# Altium footprint library PcbLib1.PcbLib: 2 footprints
Each footprint in its own frame and in the unit in brackets; x right, y up, seen from the top. Pads: shape width x height; smd on the part's side, far side on the other; paste and mask are expansions set on the pad; w line width, h text height; cw(c..) or ccw(c..) is an arc to the next point about the centre after c.
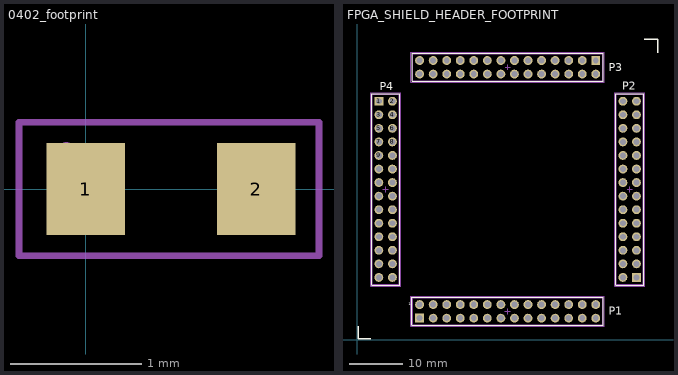
[diagram p0: the footprints below, top view; thin cyan lines are the x and y axes]

## 0402_footprint [mm]
pads (2):
  rect 0.6x0.7 smd: 1(0,0) 2(1.3,0)
Mechanical 13:
  lines w0.1: -0.148,-0.243 -0.148,0.307
Mechanical 15:
  lines w0.05: -0.508,-0.508 -0.508,0.508 1.778,0.508 1.778,-0.508 -0.508,-0.508

## FPGA_SHIELD_HEADER_FOOTPRINT [mm]
pads (112):
  rect 1.65x1.65 hole 1.1: 1(4.04,44.685) 56(44.689,52.321) 84(52.318,11.665) 85(11.666,4.04)
  round 1.65 hole 1.1: 2(6.58,44.685) 3(4.04,42.145) 4(6.58,42.145) 5(4.04,39.605) 6(6.58,39.605) 7(4.04,37.065) 8(6.58,37.065) 9(4.04,34.525) 10(6.58,34.525) 11(4.04,31.985) 12(6.58,31.985) 13(4.04,29.445) 14(6.58,29.445) 15(4.04,26.905) 16(6.58,26.905) 17(4.04,24.365) 18(6.58,24.365) 19(4.04,21.825) 20(6.58,21.825) 21(4.04,19.285) 22(6.58,19.285) 23(4.04,16.745) 24(6.58,16.745) 25(4.04,14.205) 26(6.58,14.205) 27(4.04,11.665) 28(6.58,11.665) 29(11.669,49.781) 30(11.669,52.321) 31(14.209,49.781) 32(14.209,52.321) 33(16.749,49.781) 34(16.749,52.321) 35(19.289,49.781) 36(19.289,52.321) 37(21.829,49.781) 38(21.829,52.321) 39(24.369,49.781) 40(24.369,52.321) 41(26.909,49.781) 42(26.909,52.321) 43(29.449,49.781) 44(29.449,52.321) 45(31.989,49.781) 46(31.989,52.321) 47(34.529,49.781) 48(34.529,52.321) 49(37.069,49.781) 50(37.069,52.321) 51(39.609,49.781) 52(39.609,52.321) 53(42.149,49.781) 54(42.149,52.321) 55(44.689,49.781) 57(49.778,44.685) 58(52.318,44.685) 59(49.778,42.145) 60(52.318,42.145) 61(49.778,39.605) 62(52.318,39.605) 63(49.778,37.065) 64(52.318,37.065) 65(49.778,34.525) 66(52.318,34.525) 67(49.778,31.985) 68(52.318,31.985) 69(49.778,29.445) 70(52.318,29.445) 71(49.778,26.905) 72(52.318,26.905) 73(49.778,24.365) 74(52.318,24.365) 75(49.778,21.825) 76(52.318,21.825) 77(49.778,19.285) 78(52.318,19.285) 79(49.778,16.745) 80(52.318,16.745) 81(49.778,14.205) 82(52.318,14.205) 83(49.778,11.665) 86(11.666,6.58) 87(14.206,4.04) 88(14.206,6.58) 89(16.746,4.04) 90(16.746,6.58) 91(19.286,4.04) 92(19.286,6.58) 93(21.826,4.04) 94(21.826,6.58) 95(24.366,4.04) 96(24.366,6.58) 97(26.906,4.04) 98(26.906,6.58) 99(29.446,4.04) 100(29.446,6.58) 101(31.986,4.04) 102(31.986,6.58) 103(34.526,4.04) 104(34.526,6.58) 105(37.066,4.04) 106(37.066,6.58) 107(39.606,4.04) 108(39.606,6.58) 109(42.146,4.04) 110(42.146,6.58) 111(44.686,4.04) 112(44.686,6.58)
Top Overlay:
  lines w0.2: 2.695,10.245 2.695,46.105 7.925,46.105 7.925,10.245 2.695,10.245 ; 10.246,2.695 10.246,7.925 46.106,7.925 46.106,2.695 10.246,2.695 ; 10.249,48.436 10.249,53.666 46.109,53.666 46.109,48.436 10.249,48.436 ; 48.433,10.245 48.433,46.105 53.663,46.105 53.663,10.245 48.433,10.245
  lines w0.254: 0.127,2.54 0.127,0.127 2.54,0.127 ; 53.811,56.351 56.351,56.351 56.351,53.811
  text "P3" at 47.117,50.292 h1.52
  text "P1" at 47.117,4.699 h1.52
  text "P2" at 49.657,46.863 h1.52
  text "P4" at 4.191,46.736 h1.52
  text "1" at 9.652,6.477 h0.51
Mechanical 13:
  lines w0.1: 2.77,10.395 2.77,45.955 7.85,45.955 7.85,10.395 2.77,10.395 ; 10.396,2.77 45.956,2.77 45.956,7.85 10.396,7.85 10.396,2.77 ; 10.399,48.511 10.399,53.591 45.959,53.591 45.959,48.511 10.399,48.511 ; 48.508,10.395 53.588,10.395 53.588,45.955 48.508,45.955 48.508,10.395
Mechanical 15:
  lines w0.05: 4.81,28.175 5.81,28.175 ; 5.31,27.675 5.31,28.675 ; 27.676,5.31 28.676,5.31 ; 27.679,51.051 28.679,51.051 ; 28.176,4.81 28.176,5.81 ; 28.179,50.551 28.179,51.551 ; 50.548,28.175 51.548,28.175 ; 51.048,27.675 51.048,28.675 ; 2.495,10.045 2.495,46.305 8.125,46.305 8.125,10.045 2.495,10.045 ; 10.046,2.495 10.046,8.125 46.306,8.125 46.306,2.495 10.046,2.495 ; 10.049,48.236 46.309,48.236 46.309,53.866 10.049,53.866 10.049,48.236 ; 48.233,10.045 48.233,46.305 53.863,46.305 53.863,10.045 48.233,10.045
3D body "61302821121.stp": height 8.59, standoff -2.95, extent 48.508,10.395 53.588,45.955
3D body "61302821121.stp": height 8.59, standoff -2.95, extent 10.399,48.511 45.959,53.591
3D body "61302821121.stp": height 8.59, standoff -2.95, extent 10.396,2.77 45.956,7.85
3D body "61302821121.stp": height 8.59, standoff -2.95, extent 2.77,10.395 7.85,45.955